# Altium integrated library ST Memory EPROM 16-512 Kbit.IntLib: 933 symbols (part 15 of 15)
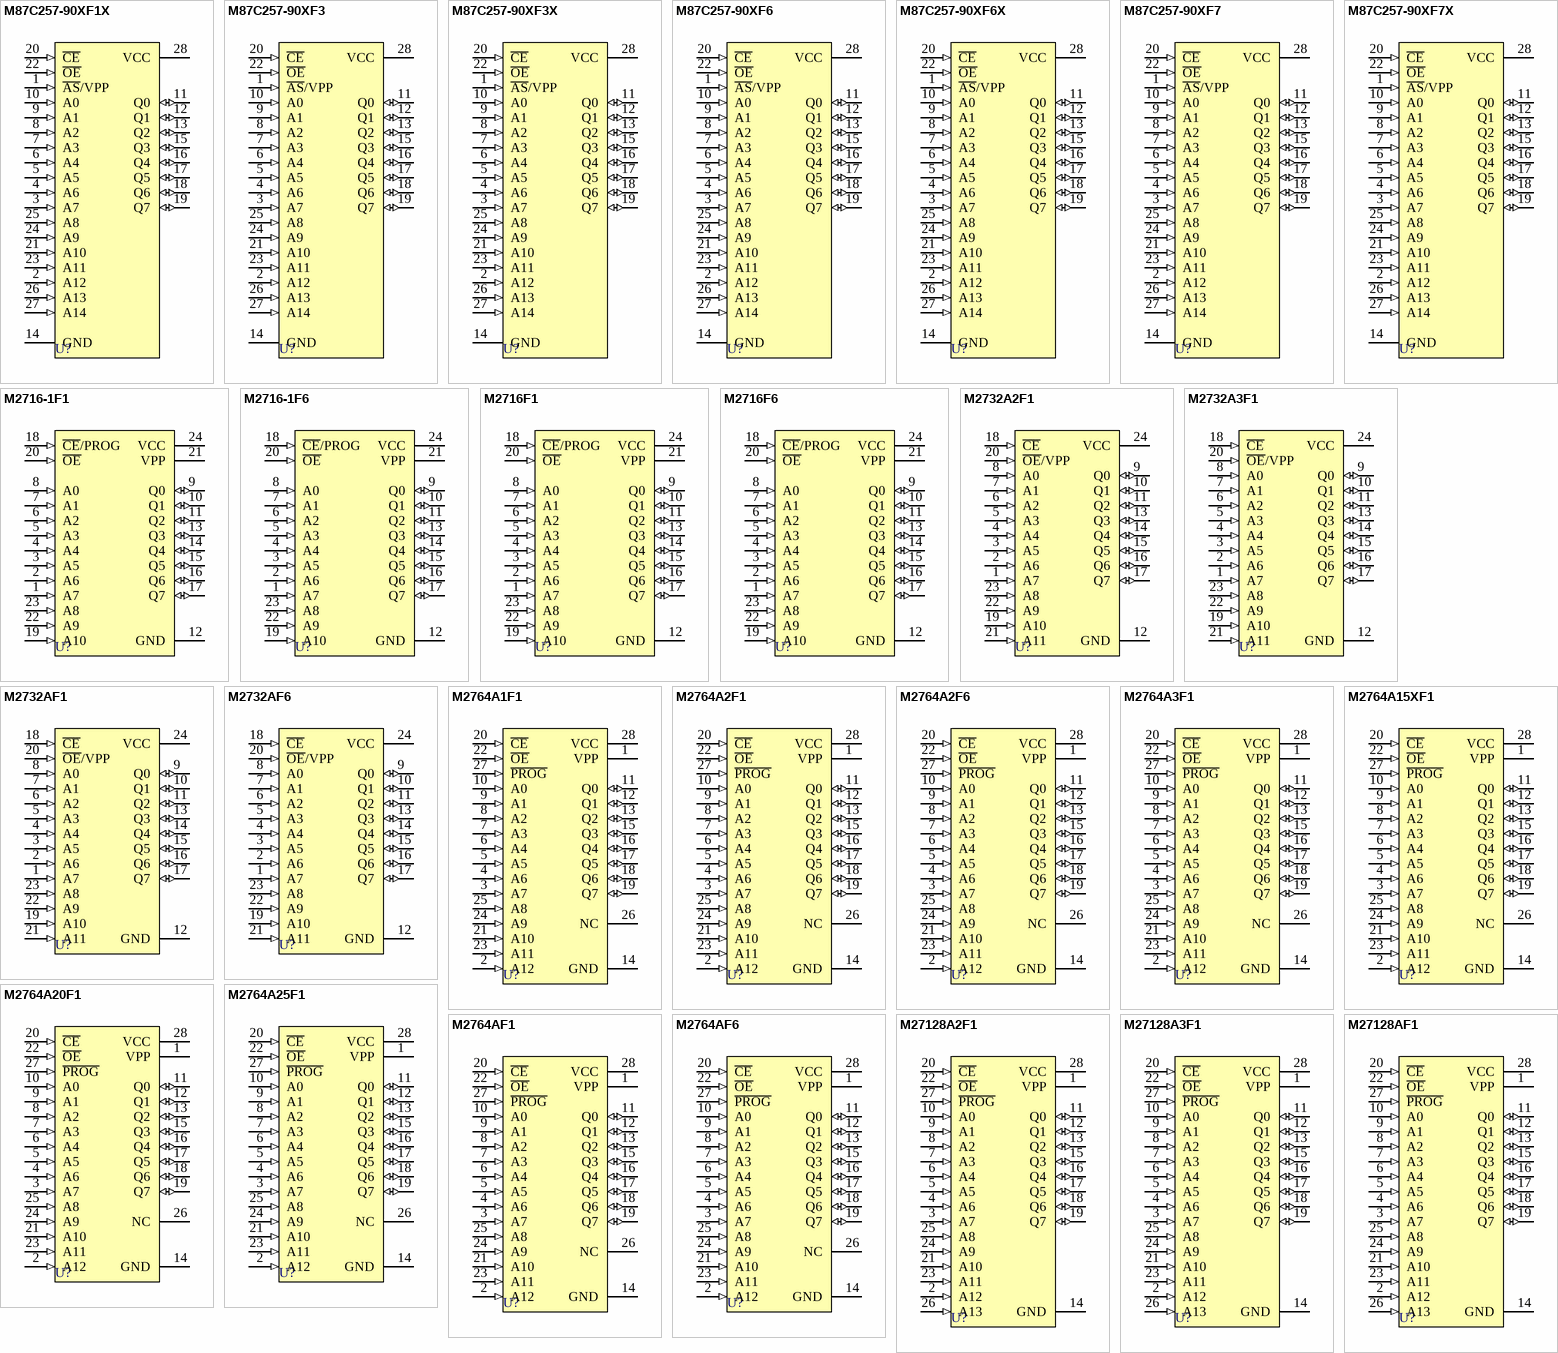
[diagram p48: symbols M87C257-90XF1X to M27128AF1]

## M87C257-90XF7X
designator U?
Address Latched 256K (32K x 8) UV EPROM and OTP EPROM; Published: 24-Aug-2001; LatestRevisionDate: 26-May-2004; LatestRevisionNote: PCB Row Spacing reduced.; DatasheetDocument: Jun-1996; PackageReference: FDIP28W; Publisher: Altium Limited
footprint FDIP28W (Ceramic Frit-seal DIP, Window; 28 Leads; Row Spacing 15.24 mm; Pitch 2.54 mm)
pins: 1 ~{AS}/VPP (in), 2 A12 (in), 3 A7 (in), 4 A6 (in), 5 A5 (in), 6 A4 (in), 7 A3 (in), 8 A2 (in), 9 A1 (in), 10 A0 (in), 11 Q0 (io), 12 Q1 (io), 13 Q2 (io), 14 GND (power), 15 Q3 (io), 16 Q4 (io), 17 Q5 (io), 18 Q6 (io), 19 Q7 (io), 20 ~{CE} (in), 21 A10 (in), 22 ~{OE} (in), 23 A11 (in), 24 A9 (in), 25 A8 (in), 26 A13 (in), 27 A14 (in), 28 VCC (power)

## M2716-1F1
designator U?
NMOS 16K (2K x 8) UV EPROM; Published: 24-Aug-2001; LatestRevisionDate: 26-May-2004; LatestRevisionNote: PCB Row Spacing reduced.; DatasheetDocument: Jul-1994; PackageReference: FDIP24W; Publisher: Altium Limited
footprint FDIP24W (Ceramic Frit-seal DIP, Window; 24 Leads; Row Spacing 15.24 mm; Pitch 2.54 mm)
pins: 1 A7 (in), 2 A6 (in), 3 A5 (in), 4 A4 (in), 5 A3 (in), 6 A2 (in), 7 A1 (in), 8 A0 (in), 9 Q0 (io), 10 Q1 (io), 11 Q2 (io), 12 GND (power), 13 Q3 (io), 14 Q4 (io), 15 Q5 (io), 16 Q6 (io), 17 Q7 (io), 18 ~{CE}/PROG (in), 19 A10 (in), 20 ~{OE} (in), 21 VPP (power), 22 A9 (in), 23 A8 (in), 24 VCC (power)

## M2716-1F6
designator U?
NMOS 16K (2K x 8) UV EPROM; Published: 24-Aug-2001; LatestRevisionDate: 26-May-2004; LatestRevisionNote: PCB Row Spacing reduced.; DatasheetDocument: Jul-1994; PackageReference: FDIP24W; Publisher: Altium Limited
footprint FDIP24W (Ceramic Frit-seal DIP, Window; 24 Leads; Row Spacing 15.24 mm; Pitch 2.54 mm)
pins: 1 A7 (in), 2 A6 (in), 3 A5 (in), 4 A4 (in), 5 A3 (in), 6 A2 (in), 7 A1 (in), 8 A0 (in), 9 Q0 (io), 10 Q1 (io), 11 Q2 (io), 12 GND (power), 13 Q3 (io), 14 Q4 (io), 15 Q5 (io), 16 Q6 (io), 17 Q7 (io), 18 ~{CE}/PROG (in), 19 A10 (in), 20 ~{OE} (in), 21 VPP (power), 22 A9 (in), 23 A8 (in), 24 VCC (power)

## M2716F1
designator U?
NMOS 16K (2K x 8) UV EPROM; Published: 24-Aug-2001; LatestRevisionDate: 26-May-2004; LatestRevisionNote: PCB Row Spacing reduced.; DatasheetDocument: Jul-1994; PackageReference: FDIP24W; Publisher: Altium Limited
footprint FDIP24W (Ceramic Frit-seal DIP, Window; 24 Leads; Row Spacing 15.24 mm; Pitch 2.54 mm)
pins: 1 A7 (in), 2 A6 (in), 3 A5 (in), 4 A4 (in), 5 A3 (in), 6 A2 (in), 7 A1 (in), 8 A0 (in), 9 Q0 (io), 10 Q1 (io), 11 Q2 (io), 12 GND (power), 13 Q3 (io), 14 Q4 (io), 15 Q5 (io), 16 Q6 (io), 17 Q7 (io), 18 ~{CE}/PROG (in), 19 A10 (in), 20 ~{OE} (in), 21 VPP (power), 22 A9 (in), 23 A8 (in), 24 VCC (power)

## M2716F6
designator U?
NMOS 16K (2K x 8) UV EPROM; Published: 24-Aug-2001; LatestRevisionDate: 26-May-2004; LatestRevisionNote: PCB Row Spacing reduced.; DatasheetDocument: Jul-1994; PackageReference: FDIP24W; Publisher: Altium Limited
footprint FDIP24W (Ceramic Frit-seal DIP, Window; 24 Leads; Row Spacing 15.24 mm; Pitch 2.54 mm)
pins: 1 A7 (in), 2 A6 (in), 3 A5 (in), 4 A4 (in), 5 A3 (in), 6 A2 (in), 7 A1 (in), 8 A0 (in), 9 Q0 (io), 10 Q1 (io), 11 Q2 (io), 12 GND (power), 13 Q3 (io), 14 Q4 (io), 15 Q5 (io), 16 Q6 (io), 17 Q7 (io), 18 ~{CE}/PROG (in), 19 A10 (in), 20 ~{OE} (in), 21 VPP (power), 22 A9 (in), 23 A8 (in), 24 VCC (power)

## M2732A2F1
designator U?
NMOS 32K (4K x 8) UV EPROM; Published: 24-Aug-2001; LatestRevisionDate: 26-May-2004; LatestRevisionNote: PCB Row Spacing reduced.; DatasheetDocument: Jul-1994; PackageReference: FDIP24W; Publisher: Altium Limited
footprint FDIP24W (Ceramic Frit-seal DIP, Window; 24 Leads; Row Spacing 15.24 mm; Pitch 2.54 mm)
pins: 1 A7 (in), 2 A6 (in), 3 A5 (in), 4 A4 (in), 5 A3 (in), 6 A2 (in), 7 A1 (in), 8 A0 (in), 9 Q0 (io), 10 Q1 (io), 11 Q2 (io), 12 GND (power), 13 Q3 (io), 14 Q4 (io), 15 Q5 (io), 16 Q6 (io), 17 Q7 (io), 18 ~{CE} (in), 19 A10 (in), 20 ~{OE}/VPP (in), 21 A11 (in), 22 A9 (in), 23 A8 (in), 24 VCC (power)

## M2732A3F1
designator U?
NMOS 32K (4K x 8) UV EPROM; Published: 24-Aug-2001; LatestRevisionDate: 26-May-2004; LatestRevisionNote: PCB Row Spacing reduced.; DatasheetDocument: Jul-1994; PackageReference: FDIP24W; Publisher: Altium Limited
footprint FDIP24W (Ceramic Frit-seal DIP, Window; 24 Leads; Row Spacing 15.24 mm; Pitch 2.54 mm)
pins: 1 A7 (in), 2 A6 (in), 3 A5 (in), 4 A4 (in), 5 A3 (in), 6 A2 (in), 7 A1 (in), 8 A0 (in), 9 Q0 (io), 10 Q1 (io), 11 Q2 (io), 12 GND (power), 13 Q3 (io), 14 Q4 (io), 15 Q5 (io), 16 Q6 (io), 17 Q7 (io), 18 ~{CE} (in), 19 A10 (in), 20 ~{OE}/VPP (in), 21 A11 (in), 22 A9 (in), 23 A8 (in), 24 VCC (power)

## M2732AF1
designator U?
NMOS 32K (4K x 8) UV EPROM; Published: 24-Aug-2001; LatestRevisionDate: 26-May-2004; LatestRevisionNote: PCB Row Spacing reduced.; DatasheetDocument: Jul-1994; PackageReference: FDIP24W; Publisher: Altium Limited
footprint FDIP24W (Ceramic Frit-seal DIP, Window; 24 Leads; Row Spacing 15.24 mm; Pitch 2.54 mm)
pins: 1 A7 (in), 2 A6 (in), 3 A5 (in), 4 A4 (in), 5 A3 (in), 6 A2 (in), 7 A1 (in), 8 A0 (in), 9 Q0 (io), 10 Q1 (io), 11 Q2 (io), 12 GND (power), 13 Q3 (io), 14 Q4 (io), 15 Q5 (io), 16 Q6 (io), 17 Q7 (io), 18 ~{CE} (in), 19 A10 (in), 20 ~{OE}/VPP (in), 21 A11 (in), 22 A9 (in), 23 A8 (in), 24 VCC (power)

## M2732AF6
designator U?
NMOS 32K (4K x 8) UV EPROM; Published: 24-Aug-2001; LatestRevisionDate: 26-May-2004; LatestRevisionNote: PCB Row Spacing reduced.; DatasheetDocument: Jul-1994; PackageReference: FDIP24W; Publisher: Altium Limited
footprint FDIP24W (Ceramic Frit-seal DIP, Window; 24 Leads; Row Spacing 15.24 mm; Pitch 2.54 mm)
pins: 1 A7 (in), 2 A6 (in), 3 A5 (in), 4 A4 (in), 5 A3 (in), 6 A2 (in), 7 A1 (in), 8 A0 (in), 9 Q0 (io), 10 Q1 (io), 11 Q2 (io), 12 GND (power), 13 Q3 (io), 14 Q4 (io), 15 Q5 (io), 16 Q6 (io), 17 Q7 (io), 18 ~{CE} (in), 19 A10 (in), 20 ~{OE}/VPP (in), 21 A11 (in), 22 A9 (in), 23 A8 (in), 24 VCC (power)

## M2764A1F1
designator U?
NMOS 64K (8K X 8) UV EPROM; Published: 24-Aug-2001; LatestRevisionDate: 26-May-2004; LatestRevisionNote: PCB Row Spacing reduced.; DatasheetDocument: Mar-1995; PackageReference: FDIP28W; Publisher: Altium Limited
footprint FDIP28W (Ceramic Frit-seal DIP, Window; 28 Leads; Row Spacing 15.24 mm; Pitch 2.54 mm)
pins: 1 VPP (power), 2 A12 (in), 3 A7 (in), 4 A6 (in), 5 A5 (in), 6 A4 (in), 7 A3 (in), 8 A2 (in), 9 A1 (in), 10 A0 (in), 11 Q0 (io), 12 Q1 (io), 13 Q2 (io), 14 GND (power), 15 Q3 (io), 16 Q4 (io), 17 Q5 (io), 18 Q6 (io), 19 Q7 (io), 20 ~{CE} (in), 21 A10 (in), 22 ~{OE} (in), 23 A11 (in), 24 A9 (in), 25 A8 (in), 26 NC, 27 ~{PROG} (in), 28 VCC (power)

## M2764A2F1
designator U?
NMOS 64K (8K X 8) UV EPROM; Published: 24-Aug-2001; LatestRevisionDate: 26-May-2004; LatestRevisionNote: PCB Row Spacing reduced.; DatasheetDocument: Mar-1995; PackageReference: FDIP28W; Publisher: Altium Limited
footprint FDIP28W (Ceramic Frit-seal DIP, Window; 28 Leads; Row Spacing 15.24 mm; Pitch 2.54 mm)
pins: 1 VPP (power), 2 A12 (in), 3 A7 (in), 4 A6 (in), 5 A5 (in), 6 A4 (in), 7 A3 (in), 8 A2 (in), 9 A1 (in), 10 A0 (in), 11 Q0 (io), 12 Q1 (io), 13 Q2 (io), 14 GND (power), 15 Q3 (io), 16 Q4 (io), 17 Q5 (io), 18 Q6 (io), 19 Q7 (io), 20 ~{CE} (in), 21 A10 (in), 22 ~{OE} (in), 23 A11 (in), 24 A9 (in), 25 A8 (in), 26 NC, 27 ~{PROG} (in), 28 VCC (power)

## M2764A2F6
designator U?
NMOS 64K (8K X 8) UV EPROM; Published: 24-Aug-2001; LatestRevisionDate: 26-May-2004; LatestRevisionNote: PCB Row Spacing reduced.; DatasheetDocument: Mar-1995; PackageReference: FDIP28W; Publisher: Altium Limited
footprint FDIP28W (Ceramic Frit-seal DIP, Window; 28 Leads; Row Spacing 15.24 mm; Pitch 2.54 mm)
pins: 1 VPP (power), 2 A12 (in), 3 A7 (in), 4 A6 (in), 5 A5 (in), 6 A4 (in), 7 A3 (in), 8 A2 (in), 9 A1 (in), 10 A0 (in), 11 Q0 (io), 12 Q1 (io), 13 Q2 (io), 14 GND (power), 15 Q3 (io), 16 Q4 (io), 17 Q5 (io), 18 Q6 (io), 19 Q7 (io), 20 ~{CE} (in), 21 A10 (in), 22 ~{OE} (in), 23 A11 (in), 24 A9 (in), 25 A8 (in), 26 NC, 27 ~{PROG} (in), 28 VCC (power)

## M2764A3F1
designator U?
NMOS 64K (8K X 8) UV EPROM; Published: 24-Aug-2001; LatestRevisionDate: 26-May-2004; LatestRevisionNote: PCB Row Spacing reduced.; DatasheetDocument: Mar-1995; PackageReference: FDIP28W; Publisher: Altium Limited
footprint FDIP28W (Ceramic Frit-seal DIP, Window; 28 Leads; Row Spacing 15.24 mm; Pitch 2.54 mm)
pins: 1 VPP (power), 2 A12 (in), 3 A7 (in), 4 A6 (in), 5 A5 (in), 6 A4 (in), 7 A3 (in), 8 A2 (in), 9 A1 (in), 10 A0 (in), 11 Q0 (io), 12 Q1 (io), 13 Q2 (io), 14 GND (power), 15 Q3 (io), 16 Q4 (io), 17 Q5 (io), 18 Q6 (io), 19 Q7 (io), 20 ~{CE} (in), 21 A10 (in), 22 ~{OE} (in), 23 A11 (in), 24 A9 (in), 25 A8 (in), 26 NC, 27 ~{PROG} (in), 28 VCC (power)

## M2764A15XF1
designator U?
NMOS 64K (8K X 8) UV EPROM; Published: 24-Aug-2001; LatestRevisionDate: 26-May-2004; LatestRevisionNote: PCB Row Spacing reduced.; DatasheetDocument: Mar-1995; PackageReference: FDIP28W; Publisher: Altium Limited
footprint FDIP28W (Ceramic Frit-seal DIP, Window; 28 Leads; Row Spacing 15.24 mm; Pitch 2.54 mm)
pins: 1 VPP (power), 2 A12 (in), 3 A7 (in), 4 A6 (in), 5 A5 (in), 6 A4 (in), 7 A3 (in), 8 A2 (in), 9 A1 (in), 10 A0 (in), 11 Q0 (io), 12 Q1 (io), 13 Q2 (io), 14 GND (power), 15 Q3 (io), 16 Q4 (io), 17 Q5 (io), 18 Q6 (io), 19 Q7 (io), 20 ~{CE} (in), 21 A10 (in), 22 ~{OE} (in), 23 A11 (in), 24 A9 (in), 25 A8 (in), 26 NC, 27 ~{PROG} (in), 28 VCC (power)

## M2764A20F1
designator U?
NMOS 64K (8K X 8) UV EPROM; Published: 24-Aug-2001; LatestRevisionDate: 26-May-2004; LatestRevisionNote: PCB Row Spacing reduced.; DatasheetDocument: Mar-1995; PackageReference: FDIP28W; Publisher: Altium Limited
footprint FDIP28W (Ceramic Frit-seal DIP, Window; 28 Leads; Row Spacing 15.24 mm; Pitch 2.54 mm)
pins: 1 VPP (power), 2 A12 (in), 3 A7 (in), 4 A6 (in), 5 A5 (in), 6 A4 (in), 7 A3 (in), 8 A2 (in), 9 A1 (in), 10 A0 (in), 11 Q0 (io), 12 Q1 (io), 13 Q2 (io), 14 GND (power), 15 Q3 (io), 16 Q4 (io), 17 Q5 (io), 18 Q6 (io), 19 Q7 (io), 20 ~{CE} (in), 21 A10 (in), 22 ~{OE} (in), 23 A11 (in), 24 A9 (in), 25 A8 (in), 26 NC, 27 ~{PROG} (in), 28 VCC (power)

## M2764A25F1
designator U?
NMOS 64K (8K X 8) UV EPROM; Published: 24-Aug-2001; LatestRevisionDate: 26-May-2004; LatestRevisionNote: PCB Row Spacing reduced.; DatasheetDocument: Mar-1995; PackageReference: FDIP28W; Publisher: Altium Limited
footprint FDIP28W (Ceramic Frit-seal DIP, Window; 28 Leads; Row Spacing 15.24 mm; Pitch 2.54 mm)
pins: 1 VPP (power), 2 A12 (in), 3 A7 (in), 4 A6 (in), 5 A5 (in), 6 A4 (in), 7 A3 (in), 8 A2 (in), 9 A1 (in), 10 A0 (in), 11 Q0 (io), 12 Q1 (io), 13 Q2 (io), 14 GND (power), 15 Q3 (io), 16 Q4 (io), 17 Q5 (io), 18 Q6 (io), 19 Q7 (io), 20 ~{CE} (in), 21 A10 (in), 22 ~{OE} (in), 23 A11 (in), 24 A9 (in), 25 A8 (in), 26 NC, 27 ~{PROG} (in), 28 VCC (power)

## M2764AF1
designator U?
NMOS 64K (8K X 8) UV EPROM; Published: 24-Aug-2001; LatestRevisionDate: 26-May-2004; LatestRevisionNote: PCB Row Spacing reduced.; DatasheetDocument: Mar-1995; PackageReference: FDIP28W; Publisher: Altium Limited
footprint FDIP28W (Ceramic Frit-seal DIP, Window; 28 Leads; Row Spacing 15.24 mm; Pitch 2.54 mm)
pins: 1 VPP (power), 2 A12 (in), 3 A7 (in), 4 A6 (in), 5 A5 (in), 6 A4 (in), 7 A3 (in), 8 A2 (in), 9 A1 (in), 10 A0 (in), 11 Q0 (io), 12 Q1 (io), 13 Q2 (io), 14 GND (power), 15 Q3 (io), 16 Q4 (io), 17 Q5 (io), 18 Q6 (io), 19 Q7 (io), 20 ~{CE} (in), 21 A10 (in), 22 ~{OE} (in), 23 A11 (in), 24 A9 (in), 25 A8 (in), 26 NC, 27 ~{PROG} (in), 28 VCC (power)

## M2764AF6
designator U?
NMOS 64K (8K X 8) UV EPROM; Published: 24-Aug-2001; LatestRevisionDate: 26-May-2004; LatestRevisionNote: PCB Row Spacing reduced.; DatasheetDocument: Mar-1995; PackageReference: FDIP28W; Publisher: Altium Limited
footprint FDIP28W (Ceramic Frit-seal DIP, Window; 28 Leads; Row Spacing 15.24 mm; Pitch 2.54 mm)
pins: 1 VPP (power), 2 A12 (in), 3 A7 (in), 4 A6 (in), 5 A5 (in), 6 A4 (in), 7 A3 (in), 8 A2 (in), 9 A1 (in), 10 A0 (in), 11 Q0 (io), 12 Q1 (io), 13 Q2 (io), 14 GND (power), 15 Q3 (io), 16 Q4 (io), 17 Q5 (io), 18 Q6 (io), 19 Q7 (io), 20 ~{CE} (in), 21 A10 (in), 22 ~{OE} (in), 23 A11 (in), 24 A9 (in), 25 A8 (in), 26 NC, 27 ~{PROG} (in), 28 VCC (power)

## M27128A2F1
designator U?
NMOS 128K (16K X 8) UV EPROM; Published: 24-Aug-2001; LatestRevisionDate: 26-May-2004; LatestRevisionNote: PCB Row Spacing reduced.; DatasheetDocument: Mar-1995; PackageReference: FDIP28W; Publisher: Altium Limited
footprint FDIP28W (Ceramic Frit-seal DIP, Window; 28 Leads; Row Spacing 15.24 mm; Pitch 2.54 mm)
pins: 1 VPP (power), 2 A12 (in), 3 A7 (in), 4 A6 (in), 5 A5 (in), 6 A4 (in), 7 A3 (in), 8 A2 (in), 9 A1 (in), 10 A0 (in), 11 Q0 (io), 12 Q1 (io), 13 Q2 (io), 14 GND (power), 15 Q3 (io), 16 Q4 (io), 17 Q5 (io), 18 Q6 (io), 19 Q7 (io), 20 ~{CE} (in), 21 A10 (in), 22 ~{OE} (in), 23 A11 (in), 24 A9 (in), 25 A8 (in), 26 A13 (in), 27 ~{PROG} (in), 28 VCC (power)

## M27128A3F1
designator U?
NMOS 128K (16K X 8) UV EPROM; Published: 24-Aug-2001; LatestRevisionDate: 26-May-2004; LatestRevisionNote: PCB Row Spacing reduced.; DatasheetDocument: Mar-1995; PackageReference: FDIP28W; Publisher: Altium Limited
footprint FDIP28W (Ceramic Frit-seal DIP, Window; 28 Leads; Row Spacing 15.24 mm; Pitch 2.54 mm)
pins: 1 VPP (power), 2 A12 (in), 3 A7 (in), 4 A6 (in), 5 A5 (in), 6 A4 (in), 7 A3 (in), 8 A2 (in), 9 A1 (in), 10 A0 (in), 11 Q0 (io), 12 Q1 (io), 13 Q2 (io), 14 GND (power), 15 Q3 (io), 16 Q4 (io), 17 Q5 (io), 18 Q6 (io), 19 Q7 (io), 20 ~{CE} (in), 21 A10 (in), 22 ~{OE} (in), 23 A11 (in), 24 A9 (in), 25 A8 (in), 26 A13 (in), 27 ~{PROG} (in), 28 VCC (power)

## M27128AF1
designator U?
NMOS 128K (16K X 8) UV EPROM; Published: 24-Aug-2001; LatestRevisionDate: 26-May-2004; LatestRevisionNote: PCB Row Spacing reduced.; DatasheetDocument: Mar-1995; PackageReference: FDIP28W; Publisher: Altium Limited
footprint FDIP28W (Ceramic Frit-seal DIP, Window; 28 Leads; Row Spacing 15.24 mm; Pitch 2.54 mm)
pins: 1 VPP (power), 2 A12 (in), 3 A7 (in), 4 A6 (in), 5 A5 (in), 6 A4 (in), 7 A3 (in), 8 A2 (in), 9 A1 (in), 10 A0 (in), 11 Q0 (io), 12 Q1 (io), 13 Q2 (io), 14 GND (power), 15 Q3 (io), 16 Q4 (io), 17 Q5 (io), 18 Q6 (io), 19 Q7 (io), 20 ~{CE} (in), 21 A10 (in), 22 ~{OE} (in), 23 A11 (in), 24 A9 (in), 25 A8 (in), 26 A13 (in), 27 ~{PROG} (in), 28 VCC (power)

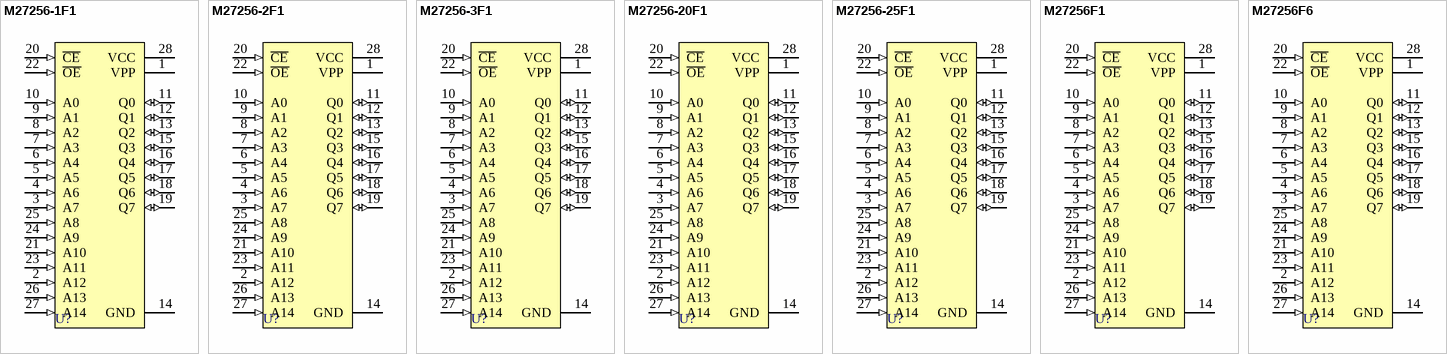
[diagram p34: symbols M27256-1F1 to M27256F6]

## M27256-1F1
designator U?
NMOS 256K (32K X 8) UV EPROM; Published: 24-Aug-2001; LatestRevisionDate: 26-May-2004; LatestRevisionNote: PCB Row Spacing reduced.; DatasheetDocument: Mar-1995; PackageReference: FDIP28W; Publisher: Altium Limited
footprint FDIP28W (Ceramic Frit-seal DIP, Window; 28 Leads; Row Spacing 15.24 mm; Pitch 2.54 mm)
pins: 1 VPP (power), 2 A12 (in), 3 A7 (in), 4 A6 (in), 5 A5 (in), 6 A4 (in), 7 A3 (in), 8 A2 (in), 9 A1 (in), 10 A0 (in), 11 Q0 (io), 12 Q1 (io), 13 Q2 (io), 14 GND (power), 15 Q3 (io), 16 Q4 (io), 17 Q5 (io), 18 Q6 (io), 19 Q7 (io), 20 ~{CE} (in), 21 A10 (in), 22 ~{OE} (in), 23 A11 (in), 24 A9 (in), 25 A8 (in), 26 A13 (in), 27 A14 (in), 28 VCC (power)

## M27256-2F1
designator U?
NMOS 256K (32K X 8) UV EPROM; Published: 24-Aug-2001; LatestRevisionDate: 26-May-2004; LatestRevisionNote: PCB Row Spacing reduced.; DatasheetDocument: Mar-1995; PackageReference: FDIP28W; Publisher: Altium Limited
footprint FDIP28W (Ceramic Frit-seal DIP, Window; 28 Leads; Row Spacing 15.24 mm; Pitch 2.54 mm)
pins: 1 VPP (power), 2 A12 (in), 3 A7 (in), 4 A6 (in), 5 A5 (in), 6 A4 (in), 7 A3 (in), 8 A2 (in), 9 A1 (in), 10 A0 (in), 11 Q0 (io), 12 Q1 (io), 13 Q2 (io), 14 GND (power), 15 Q3 (io), 16 Q4 (io), 17 Q5 (io), 18 Q6 (io), 19 Q7 (io), 20 ~{CE} (in), 21 A10 (in), 22 ~{OE} (in), 23 A11 (in), 24 A9 (in), 25 A8 (in), 26 A13 (in), 27 A14 (in), 28 VCC (power)

## M27256-3F1
designator U?
NMOS 256K (32K X 8) UV EPROM; Published: 24-Aug-2001; LatestRevisionDate: 26-May-2004; LatestRevisionNote: PCB Row Spacing reduced.; DatasheetDocument: Mar-1995; PackageReference: FDIP28W; Publisher: Altium Limited
footprint FDIP28W (Ceramic Frit-seal DIP, Window; 28 Leads; Row Spacing 15.24 mm; Pitch 2.54 mm)
pins: 1 VPP (power), 2 A12 (in), 3 A7 (in), 4 A6 (in), 5 A5 (in), 6 A4 (in), 7 A3 (in), 8 A2 (in), 9 A1 (in), 10 A0 (in), 11 Q0 (io), 12 Q1 (io), 13 Q2 (io), 14 GND (power), 15 Q3 (io), 16 Q4 (io), 17 Q5 (io), 18 Q6 (io), 19 Q7 (io), 20 ~{CE} (in), 21 A10 (in), 22 ~{OE} (in), 23 A11 (in), 24 A9 (in), 25 A8 (in), 26 A13 (in), 27 A14 (in), 28 VCC (power)

## M27256-20F1
designator U?
NMOS 256K (32K X 8) UV EPROM; Published: 24-Aug-2001; LatestRevisionDate: 26-May-2004; LatestRevisionNote: PCB Row Spacing reduced.; DatasheetDocument: Mar-1995; PackageReference: FDIP28W; Publisher: Altium Limited
footprint FDIP28W (Ceramic Frit-seal DIP, Window; 28 Leads; Row Spacing 15.24 mm; Pitch 2.54 mm)
pins: 1 VPP (power), 2 A12 (in), 3 A7 (in), 4 A6 (in), 5 A5 (in), 6 A4 (in), 7 A3 (in), 8 A2 (in), 9 A1 (in), 10 A0 (in), 11 Q0 (io), 12 Q1 (io), 13 Q2 (io), 14 GND (power), 15 Q3 (io), 16 Q4 (io), 17 Q5 (io), 18 Q6 (io), 19 Q7 (io), 20 ~{CE} (in), 21 A10 (in), 22 ~{OE} (in), 23 A11 (in), 24 A9 (in), 25 A8 (in), 26 A13 (in), 27 A14 (in), 28 VCC (power)

## M27256-25F1
designator U?
NMOS 256K (32K X 8) UV EPROM; Published: 24-Aug-2001; LatestRevisionDate: 26-May-2004; LatestRevisionNote: PCB Row Spacing reduced.; DatasheetDocument: Mar-1995; PackageReference: FDIP28W; Publisher: Altium Limited
footprint FDIP28W (Ceramic Frit-seal DIP, Window; 28 Leads; Row Spacing 15.24 mm; Pitch 2.54 mm)
pins: 1 VPP (power), 2 A12 (in), 3 A7 (in), 4 A6 (in), 5 A5 (in), 6 A4 (in), 7 A3 (in), 8 A2 (in), 9 A1 (in), 10 A0 (in), 11 Q0 (io), 12 Q1 (io), 13 Q2 (io), 14 GND (power), 15 Q3 (io), 16 Q4 (io), 17 Q5 (io), 18 Q6 (io), 19 Q7 (io), 20 ~{CE} (in), 21 A10 (in), 22 ~{OE} (in), 23 A11 (in), 24 A9 (in), 25 A8 (in), 26 A13 (in), 27 A14 (in), 28 VCC (power)

## M27256F1
designator U?
NMOS 256K (32K X 8) UV EPROM; Published: 24-Aug-2001; LatestRevisionDate: 26-May-2004; LatestRevisionNote: PCB Row Spacing reduced.; DatasheetDocument: Mar-1995; PackageReference: FDIP28W; Publisher: Altium Limited
footprint FDIP28W (Ceramic Frit-seal DIP, Window; 28 Leads; Row Spacing 15.24 mm; Pitch 2.54 mm)
pins: 1 VPP (power), 2 A12 (in), 3 A7 (in), 4 A6 (in), 5 A5 (in), 6 A4 (in), 7 A3 (in), 8 A2 (in), 9 A1 (in), 10 A0 (in), 11 Q0 (io), 12 Q1 (io), 13 Q2 (io), 14 GND (power), 15 Q3 (io), 16 Q4 (io), 17 Q5 (io), 18 Q6 (io), 19 Q7 (io), 20 ~{CE} (in), 21 A10 (in), 22 ~{OE} (in), 23 A11 (in), 24 A9 (in), 25 A8 (in), 26 A13 (in), 27 A14 (in), 28 VCC (power)

## M27256F6
designator U?
NMOS 256K (32K X 8) UV EPROM; Published: 24-Aug-2001; LatestRevisionDate: 26-May-2004; LatestRevisionNote: PCB Row Spacing reduced.; DatasheetDocument: Mar-1995; PackageReference: FDIP28W; Publisher: Altium Limited
footprint FDIP28W (Ceramic Frit-seal DIP, Window; 28 Leads; Row Spacing 15.24 mm; Pitch 2.54 mm)
pins: 1 VPP (power), 2 A12 (in), 3 A7 (in), 4 A6 (in), 5 A5 (in), 6 A4 (in), 7 A3 (in), 8 A2 (in), 9 A1 (in), 10 A0 (in), 11 Q0 (io), 12 Q1 (io), 13 Q2 (io), 14 GND (power), 15 Q3 (io), 16 Q4 (io), 17 Q5 (io), 18 Q6 (io), 19 Q7 (io), 20 ~{CE} (in), 21 A10 (in), 22 ~{OE} (in), 23 A11 (in), 24 A9 (in), 25 A8 (in), 26 A13 (in), 27 A14 (in), 28 VCC (power)